# Altium footprint library PcbLib.PcbLib: 23 footprints (part 2 of 2)
Each footprint in its own frame and in the unit in brackets; x right, y up, seen from the top. Pads: shape width x height; smd on the part's side, far side on the other; paste and mask are expansions set on the pad; w line width, h text height; cw(c..) or ccw(c..) is an arc to the next point about the centre after c.
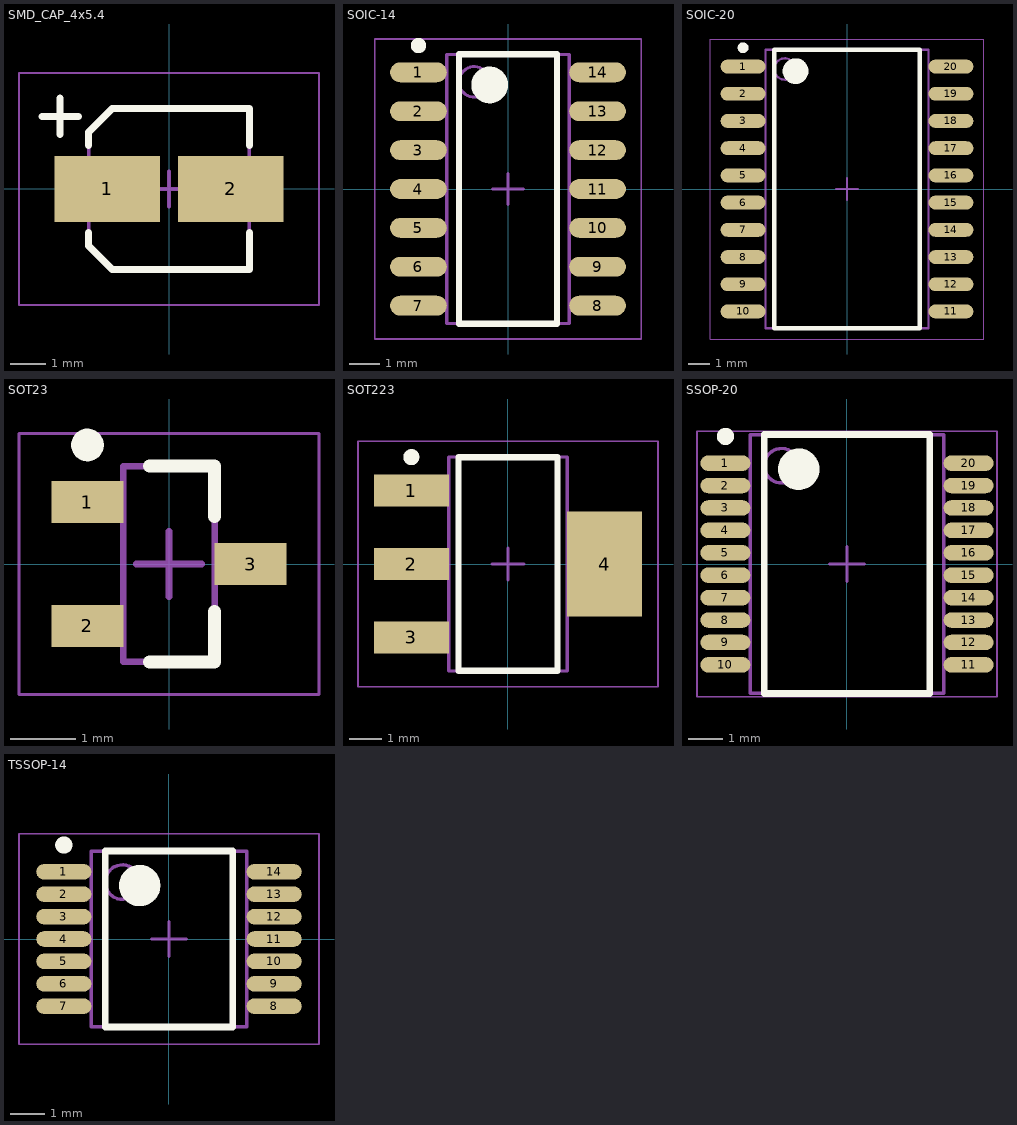
[diagram p1: the footprints below, top view; thin cyan lines are the x and y axes]

## SMD_CAP_4x5.4 [mm] "Aluminum Electrolytic Capacitor, Body 4,30x4,30x5,80mm, IPC Low Density"
height 5.8
pads (2):
  rect 2.95x1.85 smd: 1(-1.725,0) 2(1.725,0)
Top Overlay:
  lines w0.2: -3.556,2.032 -2.54,2.032 ; -3.048,1.524 -3.048,2.54 ; -2.25,-1.225 -2.25,-1.587 -1.587,-2.25 2.25,-2.25 2.25,-1.225 ; -2.25,1.225 -2.25,1.587 -1.587,2.25 2.25,2.25 2.25,1.225
Mechanical 13:
  lines w0.1: -2.25,-1.587 -2.25,1.587 -1.587,2.25 2.25,2.25 2.25,-2.25 -1.587,-2.25 -2.25,-1.587
Mechanical 15:
  lines w0.05: -4.2,-3.25 4.2,-3.25 4.2,3.25 -4.2,3.25 -4.2,-3.25
  lines w0.1: -0.5,0 0.5,0 ; 0,-0.5 0,0.5
3D body "SMD_CAP_4x5.4.step": height 5.8, standoff 0, extent -2.4,-2.25 2.4,2.25

## SOIC-14 [mm] "SOIC, 14-Leads, Body 8,65x3,90mm, Pitch 1,27mm, IPC Low Density"
height 1.75
pads (14):
  oval 1.85x0.65 smd: 1(-2.925,3.81) 2(-2.925,2.54) 3(-2.925,1.27) 4(-2.925,0) 5(-2.925,-1.27) 6(-2.925,-2.54) 7(-2.925,-3.81) 8(2.925,-3.81) 9(2.925,-2.54) 10(2.925,-1.27) 11(2.925,0) 12(2.925,1.27) 13(2.925,2.54) 14(2.925,3.81)
Top Overlay:
  circle w0.25: c-2.925,4.685 r0.125
  circle w0.6: c-0.6,3.4 r0.3
  lines w0.2: -1.6,-4.4 -1.6,4.4 1.6,4.4 1.6,-4.4 -1.6,-4.4
Mechanical 13:
  circle w0.1: c-1.1,3.5 r0.5
  lines w0.1: -2,-4.4 -2,4.4 2,4.4 2,-4.4 -2,-4.4
Mechanical 15:
  lines w0.05: -4.35,-4.9 -4.35,4.9 4.35,4.9 4.35,-4.9 -4.35,-4.9
  lines w0.1: -0.5,0 0.5,0 ; 0,-0.5 0,0.5
3D body "SOIC1-14.step": height 1.75, standoff 0, extent -3,-4.4 3,4.4

## SOIC-20 [mm]
height 2.65
pads (20):
  oval 2.1x0.65 smd: 1(-4.85,5.715) 2(-4.85,4.445) 3(-4.85,3.175) 4(-4.85,1.905) 5(-4.85,0.635) 6(-4.85,-0.635) 7(-4.85,-1.905) 8(-4.85,-3.175) 9(-4.85,-4.445) 10(-4.85,-5.715) 11(4.85,-5.715) 12(4.85,-4.445) 13(4.85,-3.175) 14(4.85,-1.905) 15(4.85,-0.635) 16(4.85,0.635) 17(4.85,1.905) 18(4.85,3.175) 19(4.85,4.445) 20(4.85,5.715)
Top Overlay:
  circle w0.6: c-2.4,5.5 r0.3
  circle w0.25: c-4.85,6.59 r0.125
  lines w0.2: -3.4,-6.5 3.4,-6.5 3.4,6.5 -3.4,6.5 -3.4,-6.5
Mechanical 13:
  circle w0.1: c-2.9,5.6 r0.5
  lines w0.1: -3.8,-6.5 3.8,-6.5 3.8,6.5 -3.8,6.5 -3.8,-6.5
Mechanical 15:
  lines w0.05: -6.375,-7 6.375,-7 6.375,7 -6.375,7 -6.375,-7
  lines w0.1: -0.5,0 0.5,0 ; 0,-0.5 0,0.5
3D body "SOIC-20.step": height 2.65, standoff 0, extent -5.15,-6.5 5.15,6.5

## SOT23 [mm] "SOT23, 3-Leads, Body 2,90x2,30mm, Pitch 0,95mm, IPC Low Density"
height 1.1
pads (3):
  rect 1.1x0.65 smd: 1(-1.25,0.95) 2(-1.25,-0.95) 3(1.25,0)
Top Overlay:
  circle w0.25: c-1.25,1.825 r0.125
  lines w0.2: -0.3,-1.5 0.7,-1.5 0.7,-0.725 ; -0.3,1.5 0.7,1.5 0.7,0.725
Mechanical 13:
  lines w0.1: -0.7,-1.5 -0.7,1.5 0.7,1.5 0.7,-1.5 -0.7,-1.5
Mechanical 15:
  lines w0.05: -2.3,-2 -2.3,2 2.3,2 2.3,-2 -2.3,-2
  lines w0.1: -0.5,0 0.5,0 ; 0,-0.5 0,0.5
3D body "SOT23.step": height 1.1, standoff 0, extent -1.245,-1.5 1.245,1.5

## SOT223 [mm] "SOT223, 4-Leads, Body 6,51x7,00mm (avg), Pitch 2,30mm, IPC Low Density"
height 1.8
pads (4):
  rect 2.35x1 smd: 1(-3.03,2.3) 2(-3.03,0) 3(-3.03,-2.3)
  rect 2.35x3.3 smd: 4(3.03,0)
Top Overlay:
  circle w0.25: c-3.03,3.35 r0.125
  lines w0.2: -1.55,-3.35 1.55,-3.35 1.55,3.35 -1.55,3.35 -1.55,-3.35
Mechanical 13:
  lines w0.1: -1.855,-3.355 1.855,-3.355 1.855,3.355 -1.855,3.355 -1.855,-3.355
Mechanical 15:
  lines w0.05: -4.7,-3.85 4.7,-3.85 4.7,3.85 -4.7,3.85 -4.7,-3.85
  lines w0.1: -0.5,0 0.5,0 ; 0,-0.5 0,0.5
3D body "SOT223.step": height 1.8, standoff 0, extent -3.5,-3.355 3.5,3.355

## SSOP-20 [mm] "SOP, 20-Leads, Body 7,20x5,30mm, Pitch 0,65mm, IPC High Density"
height 2
pads (20):
  oval 1.45x0.45 smd mask+0: 1(-3.525,2.925) 2(-3.525,2.275) 3(-3.525,1.625) 4(-3.525,0.975) 5(-3.525,0.325) 6(-3.525,-0.325) 7(-3.525,-0.975) 8(-3.525,-1.625) 9(-3.525,-2.275) 10(-3.525,-2.925) 11(3.525,-2.925) 12(3.525,-2.275) 13(3.525,-1.625) 14(3.525,-0.975) 15(3.525,-0.325) 16(3.525,0.325) 17(3.525,0.975) 18(3.525,1.625) 19(3.525,2.275) 20(3.525,2.925)
Top Overlay:
  circle w0.25: c-3.525,3.7 r0.125
  circle w0.6: c-1.4,2.75 r0.3
  lines w0.2: -2.4,-3.75 -2.4,3.75 2.4,3.75 2.4,-3.75 -2.4,-3.75
Mechanical 13:
  circle w0.1: c-1.9,2.85 r0.5
  lines w0.1: -2.8,-3.75 -2.8,3.75 2.8,3.75 2.8,-3.75 -2.8,-3.75
Mechanical 15:
  lines w0.05: -4.35,-3.85 -4.35,3.85 4.35,3.85 4.35,-3.85 -4.35,-3.85
  lines w0.1: -0.5,0 0.5,0 ; 0,-0.5 0,0.5
3D body "SOP65P780X200-20L.step": height 2, standoff 0, extent -3.9,-3.75 3.9,3.75

## TSSOP-14 [mm] "TSOP, 14-Leads, Body 5,00x4,40mm, Pitch 0,65mm, IPC Low Density"
height 1.2
pads (14):
  oval 1.6x0.45 smd mask+0: 1(-3.05,1.95) 2(-3.05,1.3) 3(-3.05,0.65) 4(-3.05,0) 5(-3.05,-0.65) 6(-3.05,-1.3) 7(-3.05,-1.95) 8(3.05,-1.95) 9(3.05,-1.3) 10(3.05,-0.65) 11(3.05,0) 12(3.05,0.65) 13(3.05,1.3) 14(3.05,1.95)
Top Overlay:
  circle w0.6: c-0.85,1.55 r0.3
  circle w0.25: c-3.05,2.725 r0.125
  lines w0.2: -1.85,-2.55 1.85,-2.55 1.85,2.55 -1.85,2.55 -1.85,-2.55
Mechanical 13:
  circle w0.1: c-1.35,1.65 r0.5
  lines w0.1: -2.25,-2.55 2.25,-2.55 2.25,2.55 -2.25,2.55 -2.25,-2.55
Mechanical 15:
  lines w0.05: -4.35,-3.05 4.35,-3.05 4.35,3.05 -4.35,3.05 -4.35,-3.05
  lines w0.1: -0.5,0 0.5,0 ; 0,-0.5 0,0.5
3D body "TSSOP-14.step": height 1.2, standoff 0, extent -3.2,-2.55 3.2,2.55